# Altium integrated library Analog Devices Data Converters Analog-to-Digital Converters.IntLib: 2400 symbols (part 175 of 338)
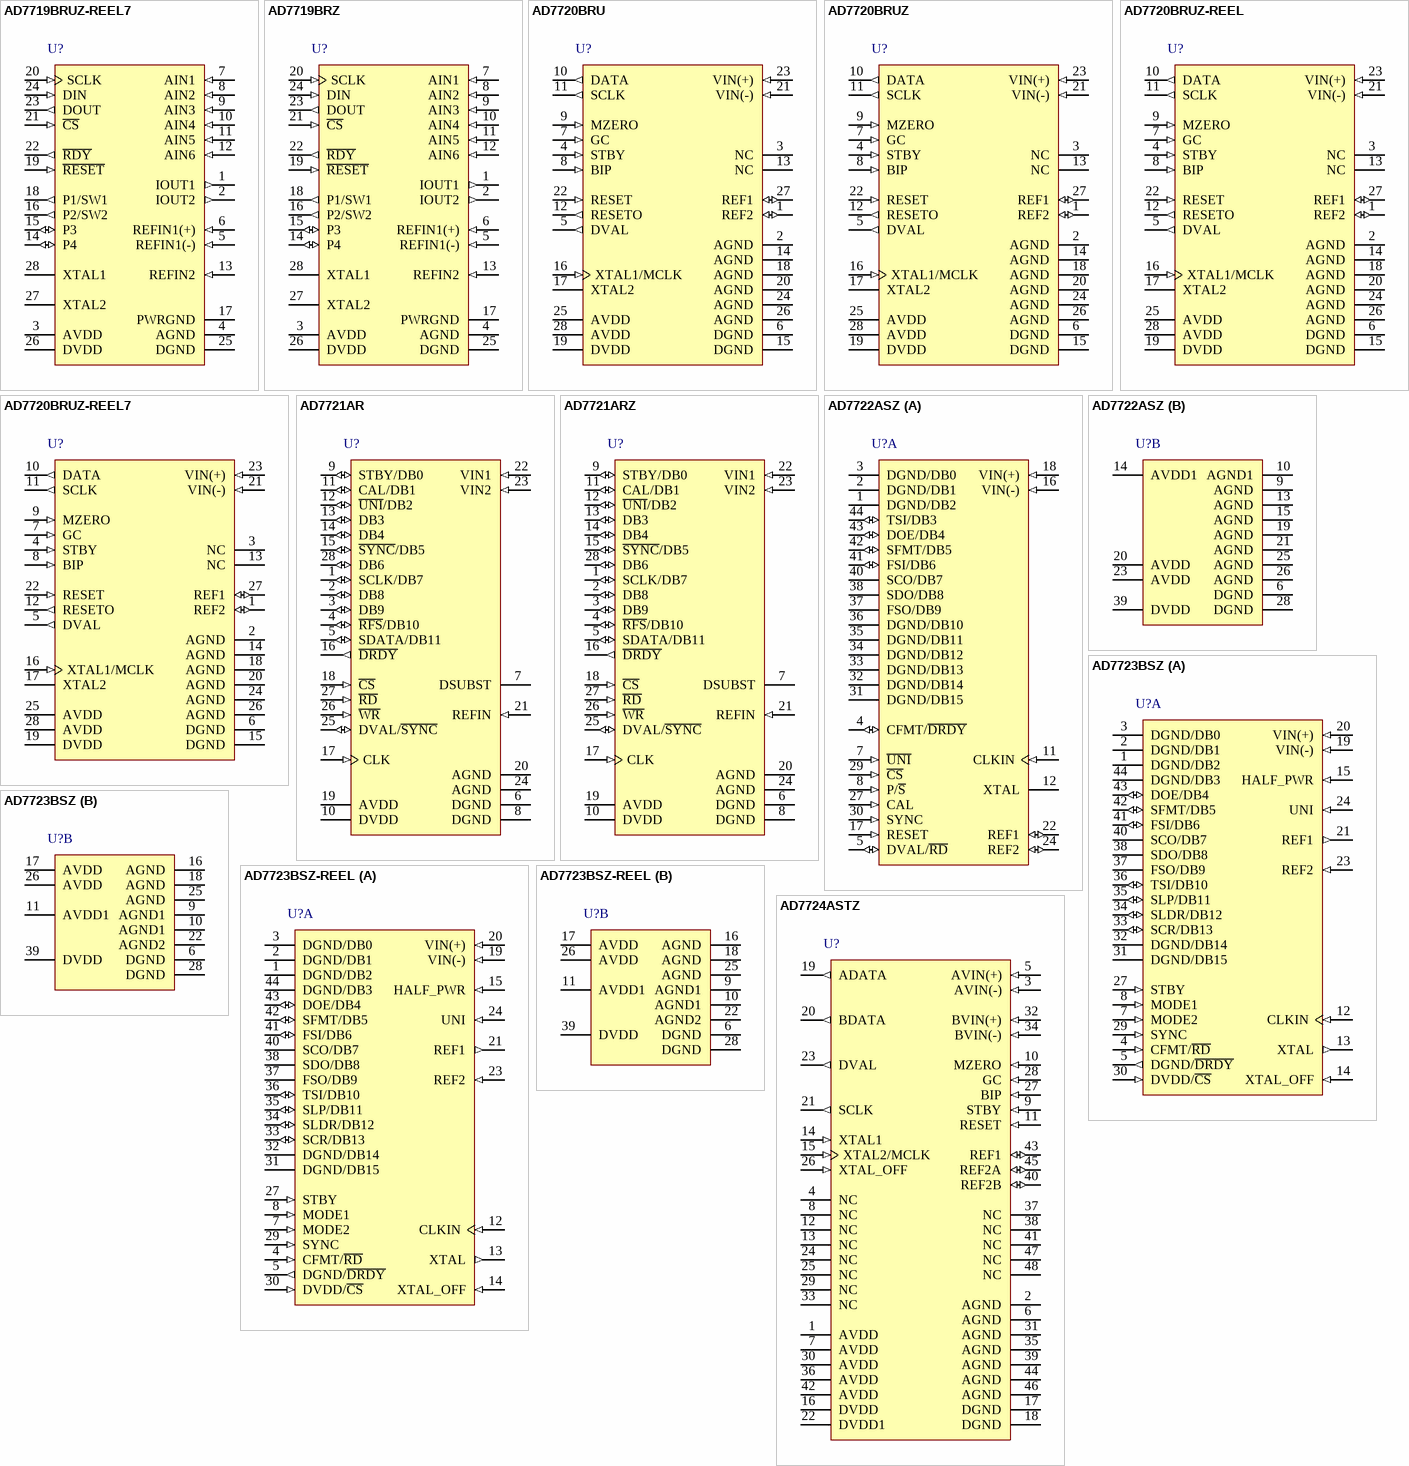
[diagram p253: symbols AD7719BRUZ-REEL7 to AD7724ASTZ]

## AD7721ARZ
designator U?
Single 16-Bit Sigma-Delta Analog-to-Digital Converter with Parallel, Serial Interface, CMOS, 468.75KSPS, -40 to +85 degC, RW-28, Pb-Free, Tube; Part Number: AD7721; Manufacturer: Analog Devices; Resolution (Bits): 16; Channels: 1; Interface: Par, Ser; DatasheetVersion: Rev.A; PackageVersion: 060706-A; PackageReference: RW-28; PackageDescription: 28-Lead Standard Small Outline Package [SOIC_W]; Throughput Rate (SPS): 468.75K; RoHS: Y; Packing: Tube; Mounting Technology: Surface Mount; Code_JEDEC: MS-013-AE; ComponentLink1Description: Manufacturer URL; ComponentLink1URL: http://www.analog.com/en/index.html; ComponentLink2Description: Datasheet; ComponentLink2URL: http://www.analog.com/static/imported-files/data_sheets/AD7721.pdf; ComponentLink3Description: Package Specification; ComponentLink3URL: http://www.analog.com/static/imported-files/packages/35833120341221RW_28.pdf; ComponentLink4Description: Product URL; ComponentLink4URL: http://www.analog.com/en/analog-to-digital-converters/ad-converters/ad7721/products/product.html
footprint RW-28_N (SOIC, 28-Leads, Body 17.9x7.5mm, Pitch 1.27mm, IPC Medium Density)
footprint RW-28_L (SOIC, 28-Leads, Body 17.9x7.5mm, Pitch 1.27mm, IPC High Density)
footprint RW-28_M (SOIC, 28-Leads, Body 17.9x7.5mm, Pitch 1.27mm, IPC Low Density)
pins: 1 SCLK/DB7 (io) "Serial Clock. Logic Output. The internal digital clock is provided as an output on this pin. Data is output from the AD7721 on the rising edge of SCLK and is valid on the falling edge of SCLK.These pins are both data outputs (See Datasheet)", 2 DB8 (io) "This is a test mode pin. This pin must be tied to DGND. This pin is both data outputs and control register inputs. Output data is placed on these pins by taking R\D\ and C\S\ low. Data on this pin is read into the control (See Datasheet)", 3 DB9 (io) "This is a test mode pin. This pin must be tied to DGND. This pin is both data output and control register input. Output data is placed on these pins by taking R\D\ and C\S\ low. Data on this pin is read into the control (See Datasheet)", 4 ~{RFS}/DB10 (io) "Receive Frame Synchronization. Active low logic input. This is a logic input with R\F\S\ provided by connecting this input to D\R\D\Y\. When RFS is high, SDATA is high impedance. This pin is both data output and control (See Datasheet)", 5 SDATA/DB11 (io) "Serial Data Output. Output serial data becomes active after R\F\S\ goes low. Sixteen bits of data are clocked out starting with the MSB. Serial data is clocked out on the rising edge of SCLK and is valid on the subsequent (See Datasheet)", 6 DGND (power) "Ground reference point for digital circuitry. DGND must be connected via its own short path to AGND (Pin 24).", 7 DSUBST (power) "This is the substrate connection for digital circuits. It must be connected via its own short path to AGND (Pin 24).", 8 DGND (power) "Ground reference point for digital circuitry. DGND must be connected via its own short path to AGND (Pin 24).", 9 STBY/DB0 (io) "Standby Mode Logic Input. A logic high on this pin selects standby mode. This pin is both data output and control register input. Output data is placed on these pins by taking R\D\ and C\S\ low. Data on this pin is read into (See Datasheet)", 10 DVDD (power) "Digital Supply Voltage, +5 V +/- 5%.", 11 CAL/DB1 (io) "Calibration Mode Logic Input. CAL must go high for at least one clock cycle to initiate a calibration cycle. This pin is both data output and control register input. Output data is placed on these pins by taking R\D\ and (See Datasheet)", 12 ~{UNI}/DB2 (io) "Analog Input Range Select, Logic Input. A logic low on this input selects unipolar mode. A logic high selects bipolar mode. This pin is both data output and control register input. Output data is placed on these pins by (See Datasheet)", 13 DB3 (io) "This is a test mode pin. This pin must be tied to DGND. This pin is both data output and control register input. Output data is placed on these pins by taking R\D\ and C\S\ low. Data on this pin is read into the control (See Datasheet)", 14 DB4 (io) "This is a test mode pin. This pin must be tied to DGND. This pin is both data output and control register input. Output data is placed on these pins by taking R\D\ and C\S\ low. Data on this pin is read into the control (See Datasheet)", 15 ~{SYNC}/DB5 (io) "Synchronization Logic Input. A rising edge on S\Y\N\C\ starts the synchronization cycle. S\Y\N\C\ must be pulsed low for at least one clock cycle to initiate a synchronization cycle.This pin is both data output and control (See Datasheet)", 16 ~{DRDY} (out) "In the serial interface mode, a rising edge on D\R\D\Y\ indicates that new data is available to be read from the interface. During a synchronization or calibration cycle, D\R\D\Y\ remains low until valid data is available.In (See Datasheet)", 17 CLK (in) "CMOS Logic Clock Input. The AD7721 operates with an external clock which is connected to the CLK pin. The modulator samples the analog input on both phases of the clock, increasing the sampling rate to 20 MHz (CLK = 10 MHz) (See Datasheet)", 18 ~{CS} (in) "To select the serial interface mode of operation, the AD7721 must be powered up with C\S\, R\D\ and W\R\ all tied to DGND. After two clock cycles, the AD7721 switches into serial mode. These pins must remain low during (See Datasheet)", 19 AVDD (power) "Analog Positive Supply Voltage, +5 V +/- 5%.", 20 AGND (power) "Ground reference point for analog circuitry.", 21 REFIN (in) "Reference Input. The AD7721 operates with an external reference, of value 2.5 V nominal. A suitable reference for operation with the AD7721 is the AD780. A 100 nF decoupling capacitor is required between REFIN and AGND.", 22 VIN1 (in) "Analog Input. In unipolar operation, the analog input range on VIN1 is VIN2 to (VIN2 + VREFIN); for bipolar operation, the analog input range on VIN1 is (VIN2 +/- VREFIN/2). The absolute analog input range must lie between 0 (See Datasheet)", 23 VIN2 (in) "Analog Input. In unipolar operation, the analog input range on VIN1 is VIN2 to (VIN2 + VREFIN); for bipolar operation, the analog input range on VIN1 is (VIN2 +/- VREFIN/2). The absolute analog input range must lie between 0 (See Datasheet)", 24 AGND (power) "Ground reference point for analog circuitry.", 25 DVAL/~{SYNC} (io) "Data Valid Digital Output. In serial mode, this pin is a dedicated data valid pin.The function of this pin is determined by the state of bit DB3 in the control register. Writing a logic zero to bit DB3 will program this pin (See Datasheet)", 26 ~{WR} (in) "To select the serial interface mode of operation, the AD7721 must be powered up with C\S\, R\D\ and W\R\ all tied to DGND. After two clock cycles, the AD7721 switches into serial mode. These pins must remain low during (See Datasheet)", 27 ~{RD} (in) "To select the serial interface mode of operation, the AD7721 must be powered up with C\S\, R\D\ and W\R\ all tied to DGND. After two clock cycles, the AD7721 switches into serial mode. These pins must remain low during (See Datasheet)", 28 DB6 (io) "This is a test mode pin. This pin must be tied to DGND. This pin is both data output and control register input. Output data is placed on these pins by taking R\D\ and C\S\ low. Data on this pin is read into the control (See Datasheet)"

## AD7722ASZ
designator U?
Single 16-Bit Sigma-Delta Analog-to-Digital Converter with Parallel, Serial Interface, CMOS, 195.3KSPS, -40 to +85 degC, S-44B, Pb-Free, Tray; Part Number: AD7722; Manufacturer: Analog Devices; Resolution (Bits): 16; Channels: 1; Throughput Rate (SPS): 195.3K; Interface: Par, Ser; DatasheetVersion: Rev.B; PackageVersion: 2003; PackageReference: S-44B; PackageDescription: 44-Lead Metric Quad Flat Package [MQFP]; RoHS: Y; Packing: Tray; Mounting Technology: Surface Mount; Code_JEDEC: MS-022-AA-1; ComponentLink1Description: Manufacturer URL; ComponentLink1URL: http://www.analog.com/en/index.html; ComponentLink2Description: Datasheet; ComponentLink2URL: http://www.analog.com/static/imported-files/data_sheets/AD7722.pdf; ComponentLink3Description: Package Specification; ComponentLink3URL: S-44B; ComponentLink4Description: Product URL; ComponentLink4URL: http://www.analog.com/en/analog-to-digital-converters/ad-converters/ad7722/products/product.html
footprint S-44B_N (QFP, 44-Leads, Body 10x10mm, Pitch 0.8mm, IPC Medium Density)
footprint S-44B_L (QFP, 44-Leads, Body 10x10mm, Pitch 0.8mm, IPC High Density)
footprint S-44B_M (QFP, 44-Leads, Body 10x10mm, Pitch 0.8mm, IPC Low Density)
part A pins: 1 DGND/DB2 (hiz) "Data Output Bit.", 2 DGND/DB1 (hiz) "Data Output Bit.", 3 DGND/DB0 (hiz) "Data Output Bit (LSB).", 4 CFMT/~{DRDY} (io) "Serial Clock Format Logic Input. The clock format pin selects whether the serial data, SDO, is valid on the rising or falling edge of the serial clock, SCO. When CFMT is logic low, SDO is valid on the falling edge of SCO if (See Datasheet)", 5 DVAL/~{RD} (io) "Data Valid Logic Output. A logic high on DVAL indicates that the conversion result in the output data register is an accurate digital representation of the analog voltage at the input to the   modulator. The DVAL pin is set (See Datasheet)", 7 ~{UNI} (in) "Analog Input Range Select Input. UNI selects the analog input range for either bipolar or unipolar operation. A logic low input selects unipolar operation. A logic high input selects bipolar operation.", 8 P/~{S} (in) "Parallel/Serial Interface Select Input. A logic high configures the output data interface for parallel mode operation. The serial mode operation is selected with the P/S\ set to a logic low.", 11 CLKIN (in) "Clock Input. Master clock signal for the device.The CLKIN pin interfaces the AD7722 internal oscillator circuit to an external crystal or an external clock. A parallel resonant, fundamental-frequency,microprocessor-grade (See Datasheet)", 12 XTAL "Oscillator Output. The XTAL pin connects the internal oscillator output to an external crystal If an external clock is used, XTAL should be left unconnected.", 16 VIN(-) (in) "Negative Terminal of the Differential Analog Input", 17 RESET (in) "Reset Logic Input", 18 VIN(+) (in) "Positive Terminal of the Differential Analog Input.", 22 REF1 (io) "Reference Input/Output. REF1 connects through 3 kO to the output of the internal 2.5 V reference and to the input of a buffer amplifier that drives the sigma-delta modulator. This pin can also be overdriven with an external (See Datasheet)", 24 REF2 (io) "Reference Input/Output. REF2 connects to the output of an internal buffer amplifier used to drive the sigma-delta modulator. When REF2 is used as an input, REF1 must be connected to AGND", 27 CAL (in) "Calibration Logic Input. A logic high input for a duration of one CLKIN cycle initiates a calibration sequence for the device gain and offset error.", 29 ~{CS} (in) "Chip select is a level sensitive logic input. C\S\ enables the output data register for parallel mode read operation. The C\S\ logic level is sensed on the rising edge of CLKIN. The output data bus is enabled when the rising (See Datasheet)", 30 SYNC (in) "Synchronization Logic Input. SYNC is an asynchronous input. When using more than one AD7722 operated from a common master clock, SYNC allows each ADC’s sigma-delta modulator to simultaneously sample its analog input and (See Datasheet)", 31 DGND/DB15 (hiz) "Data Output Bit (MSB).", 32 DGND/DB14 (hiz) "Data Output Bit.", 33 DGND/DB13 (hiz) "Data Output Bit.", 34 DGND/DB12 (hiz) "Data Output Bit.", 35 DGND/DB11 (hiz) "Data Output Bit.", 36 DGND/DB10 (hiz) "Data Output Bit.", 37 FSO/DB9 (hiz) "Data Output Bit.", 38 SDO/DB8 (hiz) "Data Output Bit.", 40 SCO/DB7 (hiz), 41 FSI/DB6 (io), 42 SFMT/DB5 (io), 43 DOE/DB4 (io), 44 TSI/DB3 (io)
part B pins: 6 DGND (power) "Ground Reference for Digital Circuitry.", 9 AGND (power) "Ground Reference for Analog Circuitry.", 10 AGND1 (power) "Clock Logic Ground Reference for the Analog Modulator.", 13 AGND (power) "Ground Reference for Analog Circuitry.", 14 AVDD1 (power) "Clock Logic Power Supply Voltage for the Analog Modulator, 5 V +/- 5%.", 15 AGND (power) "Ground Reference for Analog Circuitry.", 19 AGND (power) "Ground Reference for Analog Circuitry.", 20 AVDD (power) "Analog Power Supply Voltage, 5 V +/- 5%.", 21 AGND (power) "Ground Reference for Analog Circuitry.", 23 AVDD (power) "Analog Power Supply Voltage, 5 V +/- 5%.", 25 AGND (power) "Ground Reference for Analog Circuitry.", 26 AGND (power) "Ground Reference for Analog Circuitry.", 28 DGND (power) "Ground Reference for Digital Circuitry.", 39 DVDD (power) "Digital Power Supply Voltage, 5 V +/- 5%."

## AD7723BSZ
designator U?
Single 16-Bit Sigma-Delta Analog-to-Digital Converter with Parallel, Serial Interface, 1.2MSPS, -40 to +85 degC, S-44-2, Pb-Free, Tray; Part Number: AD7723; Manufacturer: Analog Devices; Resolution (Bits): 16; Channels: 1; Throughput Rate (SPS): 1.2M; Interface: Par, Ser; DatasheetVersion: Rev.C; PackageVersion: 041807-A; PackageReference: S-44-2; PackageDescription: 44-Lead Metric Quad Flat Package [MQFP]; RoHS: Y; Packing: Tray; Mounting Technology: Surface Mount; Code_JEDEC: MO-122-AA-1; ComponentLink1Description: Manufacturer URL; ComponentLink1URL: http://www.analog.com/en/index.html; ComponentLink2Description: Datasheet; ComponentLink2URL: http://www.analog.com/static/imported-files/data_sheets/AD7723.pdf; ComponentLink3Description: Package Specification; ComponentLink3URL: http://www.analog.com/static/imported-files/packages/209183S_44_2.pdf; ComponentLink4Description: Product URL; ComponentLink4URL: http://www.analog.com/en/analog-to-digital-converters/ad-converters/ad7723/products/product.html
footprint S-44-2_N (QFP, 44-Leads, Body 10x10mm, Pitch 0.8mm, IPC Medium Density)
footprint S-44-2_L (QFP, 44-Leads, Body 10x10mm, Pitch 0.8mm, IPC High Density)
footprint S-44-2_M (QFP, 44-Leads, Body 10x10mm, Pitch 0.8mm, IPC Low Density)
part A pins: 1 DGND/DB2 (hiz) "Data Output Bit.Tie to DGND.", 2 DGND/DB1 (hiz) "Data Output Bit.Tie to DGND.", 3 DGND/DB0 (hiz) "Data Output Bit (LSB).Tie to DGND.", 4 CFMT/~{RD} (in) "Serial Clock Format Logic Input. The clock format pin selects whether the serial data, SDO, is valid on the rising or falling edge of the serial clock, SCO. When CFMT is logic low, serial data is valid on the falling edge of (See Datasheet)", 5 DGND/~{DRDY} (out) "Data Ready Logic Output. A falling edge indicates a new output word is available to be read from the output data register. D\R\D\Y\ returns high upon completion of a read operation. If a read operation does not occur between (See Datasheet)", 7 MODE2 (in) "Mode Control Inputs. The MODE1 and MODE2 pins choose either parallel or serial data interface operation.", 8 MODE1 (in) "Mode Control Inputs. The MODE1 and MODE2 pins choose either parallel or serial data interface operation", 12 CLKIN (in) "Clock Input. An external clock source can be applied directly to this pin with XTAL_OFF tied high.  Alternatively, a parallel resonant fundamental frequency crystal, in parallel with a 1 Mohm resistor, can  be connected (See Datasheet)", 13 XTAL (out) "Input to Crystal Oscillator Amplifier. If an external clock is used, XTAL should be tied to AGND1.", 14 XTAL_OFF (in) "Oscillator Enable Input. A logic high disables the crystal oscillator amplifier to allow use of an external  clock source. Set low when using an external crystal between the CLKIN and XTAL pins.", 15 HALF_PWR (in) "When set high, the power dissipation is reduced by approximately one-half, and a maximum CLKIN  frequency of 10 MHz applies.", 19 VIN(-) (in) "Negative Terminal of the Differential Analog Input.", 20 VIN(+) (in) "Positive Terminal of the Differential Analog Input.", 21 REF1 (out) "Reference Output. REF1 connects through 3 k ohm to the output of the internal 2.5 V reference and to a buffer amplifier that drives the sigma-delta modulator.", 23 REF2 (in) "Reference Input. REF2 connects to the output of an internal buffer amplifier that drives the sigma-delta modulator.When REF2 is used as an input, REF1 must be connected to AGND to disable the internal buffer amplifier.", 24 UNI (in) "Analog Input Range Select Input. The UNI pin selects the analog input range for either bipolar or unipolar  operation. A logic high input selects unipolar operation and a logic low selects bipolar operation.", 27 STBY (in) "Standby Logic Input. A logic high sets the AD7723 into the power-down state.", 29 SYNC (in) "Synchronization Logic Input. When using more than one AD7723 operated from a common master clock,  SYNC allows each ADC to simultaneously sample its analog input and update its output register. A rising  edge resets the (See Datasheet)", 30 DVDD/~{CS} (in) "Chip Select Logic Input. Tie to DGND.", 31 DGND/DB15 (hiz) "Data Output Bit (MSB).Tie to DGND.", 32 DGND/DB14 (hiz) "Data Output Bit.Tie to DGND.", 33 SCR/DB13 (io) "Data Output Bit.Serial Clock Rate Select Input. With SCR set logic low, the serial clock output frequency, SCO, is equal to the CLKIN frequency. A logic high sets it equal to one-half the CLKIN frequency.", 34 SLDR/DB12 (io) "Data Output Bit.Serial Mode Low/High Output Data Rate Select Input. With SLDR set logic high, the low data rate is selected. A logic low selects the high data rate. The high data rate corresponds to data at the output of the (See Datasheet)", 35 SLP/DB11 (io) "Serial Mode Low-Pass/Band-Pass Filter Select Input. With SLP set logic high, the low-pass filter response is selected. A logic low selects band-pass.", 36 TSI/DB10 (io) "Time Slot Logic Input. The logic level on TSI sets the active state of the DOE pin. With TSI set logic high, DOE enables the SDO output buffer when it is a logic high and vice versa. TSI is used when two AD7723s are (See Datasheet)", 37 FSO/DB9 (hiz) "Data Output Bit. Frame Sync Output. FSO indicates the beginning of a word transmission on the SDO pin. Depending on the logic level of the SFMT pin, the FSO signal is either a positive pulse approximately one SCO period wide (See Datasheet)", 38 SDO/DB8 (hiz) "Data Output Bit. Serial Data Output. The serial data is shifted out MSB first, synchronous with the SCO. Serial Mode 1 data transmissions last 32 SCO cycles. After the LSB is output, trailing zeros are output for the (See Datasheet)", 40 SCO/DB7 (hiz) "Data Output Bit. Serial Clock Output.", 41 FSI/DB6 (io) "Data Output Bit. Frame Synchronization Logic Input. The FSI input is used to synchronize the AD7723 serial output data register to an external source and to allow more than one AD7723, operated from a common master clock, to (See Datasheet)", 42 SFMT/DB5 (io) "Serial Data Format Logic Input. The logic level on the SFMT pin selects the format of the FSO signal for Serial Mode 1. A logic low makes the FSO output a pulse one SCO cycle wide at the beginning of a serial data (See Datasheet)", 43 DOE/DB4 (io) "Data Output Bit. Data Output Enable Logic Input. The DOE pin controls the three-state output buffer of the SDO pin. The active state of DOE is determined by the logic level on the TSI pin. When the DOE logic level equals the (See Datasheet)", 44 DGND/DB3 (hiz) "Data Output Bit. Tie to DGND."
part B pins: 6 DGND (power) "Ground Reference for Digital Circuitry.", 9 AGND1 (power) "Digital Logic Power Supply Ground for the Analog Modulator.", 10 AGND1 (power) "Digital Logic Power Supply Ground for the Analog Modulator.", 11 AVDD1 (power) "Digital Logic Power Supply Voltage for the Analog Modulator.", 16 AGND (power) "Power Supply Ground for the Analog Modulator.", 17 AVDD (power) "Positive Power Supply Voltage for the Analog Modulator.", 18 AGND (power) "Power Supply Ground for the Analog Modulator.", 22 AGND2 (power) "Power Supply Ground Return to the Reference Circuitry, REF2, of the Analog Modulator.", 25 AGND (power) "Power Supply Ground for the Analog Modulator.", 26 AVDD (power) "Positive Power Supply Voltage for the Analog Modulator.", 28 DGND (power) "Ground Reference for Digital Circuitry.", 39 DVDD (power) "Digital Power Supply Voltage; 5 V +/- 5%."

## AD7723BSZ-REEL
designator U?
Single 16-Bit Sigma-Delta Analog-to-Digital Converter with Parallel, Serial Interface, 1.2MSPS, -40 to +85 degC, S-44-2, Pb-Free, Reel; Part Number: AD7723; Manufacturer: Analog Devices; Resolution (Bits): 16; Channels: 1; Throughput Rate (SPS): 1.2M; Interface: Par, Ser; DatasheetVersion: Rev.C; PackageVersion: 041807-A; PackageReference: S-44-2; PackageDescription: 44-Lead Metric Quad Flat Package [MQFP]; RoHS: Y; Packing: Reel; Mounting Technology: Surface Mount; Code_JEDEC: MO-122-AA-1; ComponentLink1Description: Manufacturer URL; ComponentLink1URL: http://www.analog.com/en/index.html; ComponentLink2Description: Datasheet; ComponentLink2URL: http://www.analog.com/static/imported-files/data_sheets/AD7723.pdf; ComponentLink3Description: Package Specification; ComponentLink3URL: http://www.analog.com/static/imported-files/packages/209183S_44_2.pdf; ComponentLink4Description: Product URL; ComponentLink4URL: http://www.analog.com/en/analog-to-digital-converters/ad-converters/ad7723/products/product.html
footprint S-44-2_N (QFP, 44-Leads, Body 10x10mm, Pitch 0.8mm, IPC Medium Density)
footprint S-44-2_L (QFP, 44-Leads, Body 10x10mm, Pitch 0.8mm, IPC High Density)
footprint S-44-2_M (QFP, 44-Leads, Body 10x10mm, Pitch 0.8mm, IPC Low Density)
part A pins: 1 DGND/DB2 (hiz) "Data Output Bit.Tie to DGND.", 2 DGND/DB1 (hiz) "Data Output Bit.Tie to DGND.", 3 DGND/DB0 (hiz) "Data Output Bit (LSB).Tie to DGND.", 4 CFMT/~{RD} (in) "Serial Clock Format Logic Input. The clock format pin selects whether the serial data, SDO, is valid on the rising or falling edge of the serial clock, SCO. When CFMT is logic low, serial data is valid on the falling edge of (See Datasheet)", 5 DGND/~{DRDY} (out) "Data Ready Logic Output. A falling edge indicates a new output word is available to be read from the output data register. D\R\D\Y\ returns high upon completion of a read operation. If a read operation does not occur between (See Datasheet)", 7 MODE2 (in) "Mode Control Inputs. The MODE1 and MODE2 pins choose either parallel or serial data interface operation.", 8 MODE1 (in) "Mode Control Inputs. The MODE1 and MODE2 pins choose either parallel or serial data interface operation", 12 CLKIN (in) "Clock Input. An external clock source can be applied directly to this pin with XTAL_OFF tied high.  Alternatively, a parallel resonant fundamental frequency crystal, in parallel with a 1 Mohm resistor, can  be connected (See Datasheet)", 13 XTAL (out) "Input to Crystal Oscillator Amplifier. If an external clock is used, XTAL should be tied to AGND1.", 14 XTAL_OFF (in) "Oscillator Enable Input. A logic high disables the crystal oscillator amplifier to allow use of an external  clock source. Set low when using an external crystal between the CLKIN and XTAL pins.", 15 HALF_PWR (in) "When set high, the power dissipation is reduced by approximately one-half, and a maximum CLKIN  frequency of 10 MHz applies.", 19 VIN(-) (in) "Negative Terminal of the Differential Analog Input.", 20 VIN(+) (in) "Positive Terminal of the Differential Analog Input.", 21 REF1 (out) "Reference Output. REF1 connects through 3 k ohm to the output of the internal 2.5 V reference and to a buffer amplifier that drives the sigma-delta modulator.", 23 REF2 (in) "Reference Input. REF2 connects to the output of an internal buffer amplifier that drives the sigma-delta modulator.When REF2 is used as an input, REF1 must be connected to AGND to disable the internal buffer amplifier.", 24 UNI (in) "Analog Input Range Select Input. The UNI pin selects the analog input range for either bipolar or unipolar  operation. A logic high input selects unipolar operation and a logic low selects bipolar operation.", 27 STBY (in) "Standby Logic Input. A logic high sets the AD7723 into the power-down state.", 29 SYNC (in) "Synchronization Logic Input. When using more than one AD7723 operated from a common master clock,  SYNC allows each ADC to simultaneously sample its analog input and update its output register. A rising  edge resets the (See Datasheet)", 30 DVDD/~{CS} (in) "Chip Select Logic Input. Tie to DGND.", 31 DGND/DB15 (hiz) "Data Output Bit (MSB).Tie to DGND.", 32 DGND/DB14 (hiz) "Data Output Bit.Tie to DGND.", 33 SCR/DB13 (io) "Data Output Bit.Serial Clock Rate Select Input. With SCR set logic low, the serial clock output frequency, SCO, is equal to the CLKIN frequency. A logic high sets it equal to one-half the CLKIN frequency.", 34 SLDR/DB12 (io) "Data Output Bit.Serial Mode Low/High Output Data Rate Select Input. With SLDR set logic high, the low data rate is selected. A logic low selects the high data rate. The high data rate corresponds to data at the output of the (See Datasheet)", 35 SLP/DB11 (io) "Serial Mode Low-Pass/Band-Pass Filter Select Input. With SLP set logic high, the low-pass filter response is selected. A logic low selects band-pass.", 36 TSI/DB10 (io) "Time Slot Logic Input. The logic level on TSI sets the active state of the DOE pin. With TSI set logic high, DOE enables the SDO output buffer when it is a logic high and vice versa. TSI is used when two AD7723s are (See Datasheet)", 37 FSO/DB9 (hiz) "Data Output Bit. Frame Sync Output. FSO indicates the beginning of a word transmission on the SDO pin. Depending on the logic level of the SFMT pin, the FSO signal is either a positive pulse approximately one SCO period wide (See Datasheet)", 38 SDO/DB8 (hiz) "Data Output Bit. Serial Data Output. The serial data is shifted out MSB first, synchronous with the SCO. Serial Mode 1 data transmissions last 32 SCO cycles. After the LSB is output, trailing zeros are output for the (See Datasheet)", 40 SCO/DB7 (hiz) "Data Output Bit. Serial Clock Output.", 41 FSI/DB6 (io) "Data Output Bit. Frame Synchronization Logic Input. The FSI input is used to synchronize the AD7723 serial output data register to an external source and to allow more than one AD7723, operated from a common master clock, to (See Datasheet)", 42 SFMT/DB5 (io) "Serial Data Format Logic Input. The logic level on the SFMT pin selects the format of the FSO signal for Serial Mode 1. A logic low makes the FSO output a pulse one SCO cycle wide at the beginning of a serial data (See Datasheet)", 43 DOE/DB4 (io) "Data Output Bit. Data Output Enable Logic Input. The DOE pin controls the three-state output buffer of the SDO pin. The active state of DOE is determined by the logic level on the TSI pin. When the DOE logic level equals the (See Datasheet)", 44 DGND/DB3 (hiz) "Data Output Bit. Tie to DGND."
part B pins: 6 DGND (power) "Ground Reference for Digital Circuitry.", 9 AGND1 (power) "Digital Logic Power Supply Ground for the Analog Modulator.", 10 AGND1 (power) "Digital Logic Power Supply Ground for the Analog Modulator.", 11 AVDD1 (power) "Digital Logic Power Supply Voltage for the Analog Modulator.", 16 AGND (power) "Power Supply Ground for the Analog Modulator.", 17 AVDD (power) "Positive Power Supply Voltage for the Analog Modulator.", 18 AGND (power) "Power Supply Ground for the Analog Modulator.", 22 AGND2 (power) "Power Supply Ground Return to the Reference Circuitry, REF2, of the Analog Modulator.", 25 AGND (power) "Power Supply Ground for the Analog Modulator.", 26 AVDD (power) "Positive Power Supply Voltage for the Analog Modulator.", 28 DGND (power) "Ground Reference for Digital Circuitry.", 39 DVDD (power) "Digital Power Supply Voltage; 5 V +/- 5%."

## AD7724ASTZ
designator U?
Dual 15-Bit Sigma-Delta Analog-to-Digital Converter with Serial Interface, CMOS, 250KSPS, -40 to +85 degC, ST-48, Pb-Free, Tray; Part Number: AD7724; Manufacturer: Analog Devices; Resolution (Bits): 15; Channels: 2; Throughput Rate (SPS): 250K; Interface: Ser; DatasheetVersion: Rev.B; PackageVersion: revA; PackageReference: ST-48; PackageDescription: 48-Pin Thin Quad Flat Pack 0.5 mm Pitch; RoHS: Y; Packing: Tray; Mounting Technology: Surface Mount; ComponentLink1Description: Manufacturer URL; ComponentLink1URL: http://www.analog.com/en/index.html; ComponentLink2Description: Datasheet; ComponentLink2URL: http://www.analog.com/static/imported-files/data_sheets/AD7724.pdf; ComponentLink3Description: Package Specification; ComponentLink3URL: http://www.analog.com/static/imported-files/packages/PKG_PDF/LQFP%28ST%29/ST_48.pdf; ComponentLink4Description: Product URL; ComponentLink4URL: http://www.analog.com/en/analog-to-digital-converters/ad-converters/ad7724/products/product.html
footprint ST-48_N (Thin QFP, 48-Leads, Body 7x7mm, Pitch 0.5mm, IPC Medium Density)
footprint ST-48_L (Thin QFP, 48-Leads, Body 7x7mm, Pitch 0.5mm, IPC High Density)
footprint ST-48_M (Thin QFP, 48-Leads, Body 7x7mm, Pitch 0.5mm, IPC Low Density)
pins: 1 AVDD (power) "Analog Positive Supply Voltage, 5 V +/- 5%.", 2 AGND (power) "Ground reference point for analog circuitry", 3 AVIN(-) (in) "Analog Input to Modulator A. In unipolar operation, the analog input range on AVIN(+) is AVIN(-) to (AVIN(-) + VREF); for bipolar operation, the analog input range on AVIN(+) is (AVIN(-) +/- VREF/2). The absolute analog (See Datasheet)", 4 NC "no connected", 5 AVIN(+) (in) "Analog Input to Modulator A. In unipolar operation, the analog input range on AVIN(+) is AVIN(-) to (AVIN(-) + VREF); for bipolar operation, the analog input range on AVIN(+) is (AVIN(-) +/- VREF/2). The absolute analog (See Datasheet)", 6 AGND (power) "Ground reference point for analog circuitry.", 7 AVDD (power) "Analog Positive Supply Voltage, 5 V +/- 5%", 8 NC "no connected", 9 STBY (in) "Standby, Logic Input. When STBY is high, the device is placed in a low power mode. When STBY is low, the device is powered up.", 10 MZERO (in) "Digital Control Input. When MZERO is high, the modulator inputs are internally grounded i.e. tied to AGND in unipolar mode and REF2 in bipolar mode. MZERO allows on-chip offsets to be calibrated out. MZERO is low for normal (See Datasheet)", 11 RESET (in) "Reset Logic Input. RESET is an asynchronous input. When RESET is taken high, the sigma-delta modulator is  reset by shorting the integrator capacitors in the modulator. DVAL goes low for 20 MCLK cycles while the modulator is (See Datasheet)", 12 NC "no connected", 13 NC "no connected", 14 XTAL1 (in) "Input to Crystal Oscillator Amplifier. This pin can also be used to gain up a small input square or sine wave with XTAL_OFF tied low (see Figure 32 on page 12). When a clock source is applied to XTAL1, SCLK will be inverted (See Datasheet)", 15 XTAL2/MCLK (in) "Clock Input. An external clock source can be applied directly to this pin with XTAL_OFF tied high. In this case, XTAL1 should be tied to AGND. Alternatively, a parallel resonant fundamental frequency crystal, in parallel (See Datasheet)", 16 DVDD (power) "Digital Supply Voltage, 5 V +/- 5%", 17 DGND (power) "Ground reference for the digital circuitry", 18 DGND (power) "Ground reference for the digital circuitry", 19 ADATA (out) "Modulator A Bit Stream. The digital bit stream from the sigma-delta modulator is output at ADATA.", 20 BDATA (out) "Modulator B Bit Stream. The digital bit stream from the sigma-delta modulator is output at BDATA.", 21 SCLK (out) "Serial Clock, Logic Output. The bit stream from modulator A and modulator B is valid on the rising edge of ASCLK", 22 DVDD1 (power) "Digital Supply Voltage for the digital outputs. DVDD1 can have a value of 5 V +/- 5% or 3 V +/- 5% so that the logic outputs can be 3 V or 5 V compatible.", 23 DVAL (out) "Data Valid Logic Output. A logic high on DVAL indicates that the data bit stream from the AD7724 is an accurate digital representation of the analog voltage at the input to the sigma-delta modulator. The DVAL pin is set low (See Datasheet)", 24 NC "no connected", 25 NC "no connected", 26 XTAL_OFF (in) "Oscillator Enable Input. A logic high disables the crystal oscillator amplifier to allow use of an external clock source. XTAL_OFF is set to a logic low when an external crystal is used between XTAL1 and XTAL2.", 27 BIP (in) "Analog Input Range Select, Logic Input. A logic low on this input selects unipolar mode. A logic high selects bipolar mode.", 28 GC (in) "Digital Control Input. When GC is high, the gain error of the modulator can be calibrated.", 29 NC "no connected", 30 AVDD (power) "Analog Positive Supply Voltage, 5 V +/- 5%", 31 AGND (power) "Ground reference point for analog circuitry.", 32 BVIN(+) (in) "Analog Input to Modulator B. In unipolar operation, the analog input range on BVIN(+) is BVIN(-) to (BVIN(-) + VREF); for bipolar operation, the analog input range on BVIN(+) is (BVIN(-) +/- VREF/2). The absolute analog (See Datasheet)", 33 NC "no connected", 34 BVIN(-) (in) "Analog Input to Modulator B. In unipolar operation, the analog input range on BVIN(+) is BVIN(-) to (BVIN(-) + VREF); for bipolar operation, the analog input range on BVIN(+) is (BVIN(-) +/- VREF/2). The absolute analog (See Datasheet)", 35 AGND (power) "Ground reference point for analog circuitry.", 36 AVDD (power) "Analog Positive Supply Voltage, 5 V +/- 5%", 37 NC "no connected", 38 NC "no connected", 39 AGND (power) "Ground reference point for analog circuitry.", 40 REF2B (io) "Reference Input/Output to Sigma-Delta Modulator B. REF2B connects to the output of an external buffer amplifier used to drive sigma-delta modulator B. When REF2B is used as an input, REF1 must be connected to AGND.", 41 NC "no connected", 42 AVDD (power) "Analog Positive Supply Voltage, 5 V +/- 5%", 43 REF1 (io) "Reference Input/Output. REF1 connects through 3 k ohm to the output of the internal 2.5 V reference and to the input of two buffer amplifiers that drive sigma-? modulator A and sigma-? modulator B. The pin can be overdriven (See Datasheet)", 44 AGND (power) "Ground reference point for analog circuitry.", 45 REF2A (io) "Reference Input/Output to Sigma-Delta Modulator A. REF2A connects to the output of an external buffer amplifier used to drive sigma-delta modulator A. When REF2A is used as an input, REF1 must be connected to AGND.", 46 AGND (power) "Ground reference point for analog circuitry.", 47 NC "no connected", 48 NC "no connected"

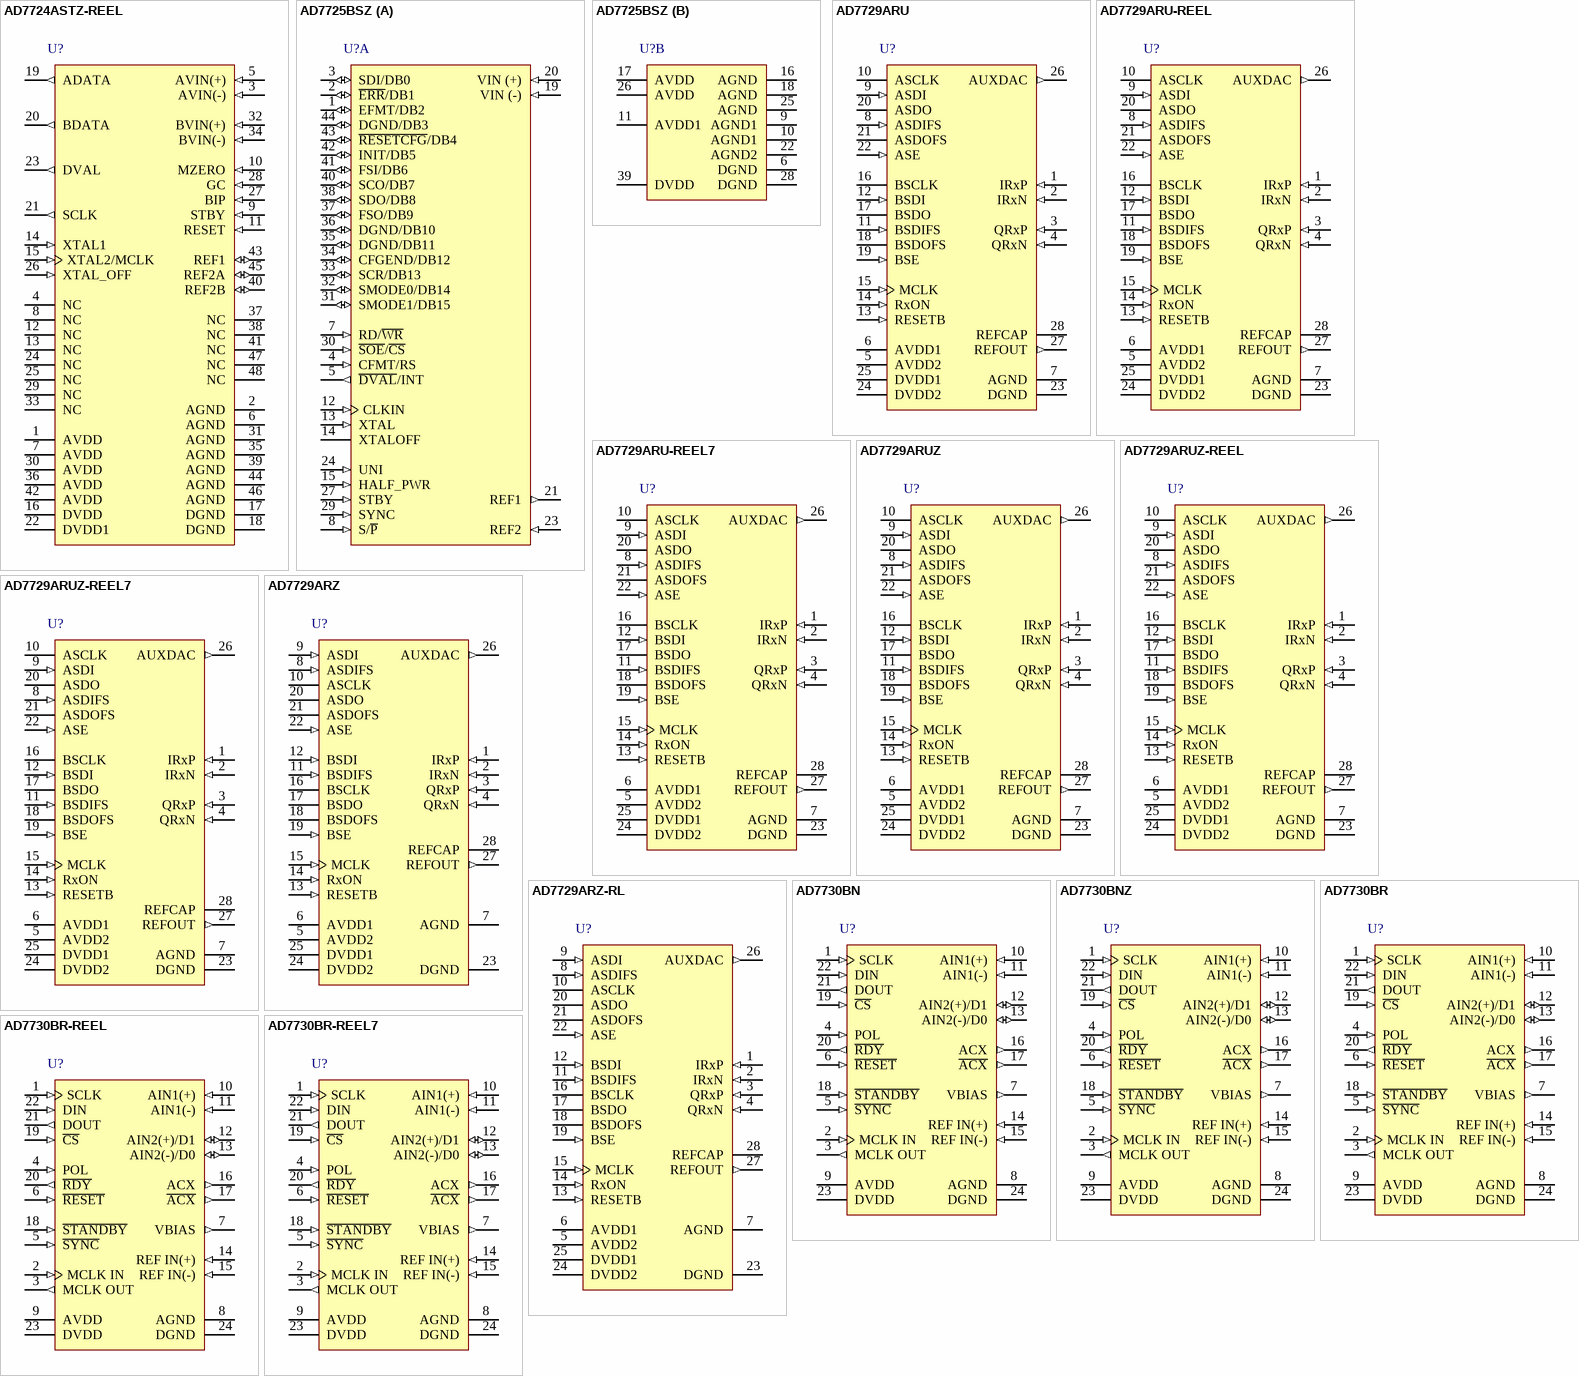
[diagram p56: symbols AD7724ASTZ-REEL to AD7730BR-REEL7]

## AD7724ASTZ-REEL
designator U?
Dual 15-Bit Sigma-Delta Analog-to-Digital Converter with Serial Interface, CMOS, 250KSPS, -40 to +85 degC, ST-48, Pb-Free, Reel; Part Number: AD7724; Manufacturer: Analog Devices; Resolution (Bits): 15; Channels: 2; Throughput Rate (SPS): 250K; Interface: Ser; DatasheetVersion: Rev.B; PackageVersion: revA; PackageReference: ST-48; PackageDescription: 48-Pin Thin Quad Flat Pack 0.5 mm Pitch; RoHS: Y; Packing: Reel; Mounting Technology: Surface Mount; ComponentLink1Description: Manufacturer URL; ComponentLink1URL: http://www.analog.com/en/index.html; ComponentLink2Description: Datasheet; ComponentLink2URL: http://www.analog.com/static/imported-files/data_sheets/AD7724.pdf; ComponentLink3Description: Package Specification; ComponentLink3URL: http://www.analog.com/static/imported-files/packages/PKG_PDF/LQFP%28ST%29/ST_48.pdf; ComponentLink4Description: Product URL; ComponentLink4URL: http://www.analog.com/en/analog-to-digital-converters/ad-converters/ad7724/products/product.html
footprint ST-48_N (Thin QFP, 48-Leads, Body 7x7mm, Pitch 0.5mm, IPC Medium Density)
footprint ST-48_L (Thin QFP, 48-Leads, Body 7x7mm, Pitch 0.5mm, IPC High Density)
footprint ST-48_M (Thin QFP, 48-Leads, Body 7x7mm, Pitch 0.5mm, IPC Low Density)
pins: 1 AVDD (power) "Analog Positive Supply Voltage, 5 V +/- 5%.", 2 AGND (power) "Ground reference point for analog circuitry", 3 AVIN(-) (in) "Analog Input to Modulator A. In unipolar operation, the analog input range on AVIN(+) is AVIN(-) to (AVIN(-) + VREF); for bipolar operation, the analog input range on AVIN(+) is (AVIN(-) +/- VREF/2). The absolute analog (See Datasheet)", 4 NC "no connected", 5 AVIN(+) (in) "Analog Input to Modulator A. In unipolar operation, the analog input range on AVIN(+) is AVIN(-) to (AVIN(-) + VREF); for bipolar operation, the analog input range on AVIN(+) is (AVIN(-) +/- VREF/2). The absolute analog (See Datasheet)", 6 AGND (power) "Ground reference point for analog circuitry.", 7 AVDD (power) "Analog Positive Supply Voltage, 5 V +/- 5%", 8 NC "no connected", 9 STBY (in) "Standby, Logic Input. When STBY is high, the device is placed in a low power mode. When STBY is low, the device is powered up.", 10 MZERO (in) "Digital Control Input. When MZERO is high, the modulator inputs are internally grounded i.e. tied to AGND in unipolar mode and REF2 in bipolar mode. MZERO allows on-chip offsets to be calibrated out. MZERO is low for normal (See Datasheet)", 11 RESET (in) "Reset Logic Input. RESET is an asynchronous input. When RESET is taken high, the sigma-delta modulator is  reset by shorting the integrator capacitors in the modulator. DVAL goes low for 20 MCLK cycles while the modulator is (See Datasheet)", 12 NC "no connected", 13 NC "no connected", 14 XTAL1 (in) "Input to Crystal Oscillator Amplifier. This pin can also be used to gain up a small input square or sine wave with XTAL_OFF tied low (see Figure 32 on page 12). When a clock source is applied to XTAL1, SCLK will be inverted (See Datasheet)", 15 XTAL2/MCLK (in) "Clock Input. An external clock source can be applied directly to this pin with XTAL_OFF tied high. In this case, XTAL1 should be tied to AGND. Alternatively, a parallel resonant fundamental frequency crystal, in parallel (See Datasheet)", 16 DVDD (power) "Digital Supply Voltage, 5 V +/- 5%", 17 DGND (power) "Ground reference for the digital circuitry", 18 DGND (power) "Ground reference for the digital circuitry", 19 ADATA (out) "Modulator A Bit Stream. The digital bit stream from the sigma-delta modulator is output at ADATA.", 20 BDATA (out) "Modulator B Bit Stream. The digital bit stream from the sigma-delta modulator is output at BDATA.", 21 SCLK (out) "Serial Clock, Logic Output. The bit stream from modulator A and modulator B is valid on the rising edge of ASCLK", 22 DVDD1 (power) "Digital Supply Voltage for the digital outputs. DVDD1 can have a value of 5 V +/- 5% or 3 V +/- 5% so that the logic outputs can be 3 V or 5 V compatible.", 23 DVAL (out) "Data Valid Logic Output. A logic high on DVAL indicates that the data bit stream from the AD7724 is an accurate digital representation of the analog voltage at the input to the sigma-delta modulator. The DVAL pin is set low (See Datasheet)", 24 NC "no connected", 25 NC "no connected", 26 XTAL_OFF (in) "Oscillator Enable Input. A logic high disables the crystal oscillator amplifier to allow use of an external clock source. XTAL_OFF is set to a logic low when an external crystal is used between XTAL1 and XTAL2.", 27 BIP (in) "Analog Input Range Select, Logic Input. A logic low on this input selects unipolar mode. A logic high selects bipolar mode.", 28 GC (in) "Digital Control Input. When GC is high, the gain error of the modulator can be calibrated.", 29 NC "no connected", 30 AVDD (power) "Analog Positive Supply Voltage, 5 V +/- 5%", 31 AGND (power) "Ground reference point for analog circuitry.", 32 BVIN(+) (in) "Analog Input to Modulator B. In unipolar operation, the analog input range on BVIN(+) is BVIN(-) to (BVIN(-) + VREF); for bipolar operation, the analog input range on BVIN(+) is (BVIN(-) +/- VREF/2). The absolute analog (See Datasheet)", 33 NC "no connected", 34 BVIN(-) (in) "Analog Input to Modulator B. In unipolar operation, the analog input range on BVIN(+) is BVIN(-) to (BVIN(-) + VREF); for bipolar operation, the analog input range on BVIN(+) is (BVIN(-) +/- VREF/2). The absolute analog (See Datasheet)", 35 AGND (power) "Ground reference point for analog circuitry.", 36 AVDD (power) "Analog Positive Supply Voltage, 5 V +/- 5%", 37 NC "no connected", 38 NC "no connected", 39 AGND (power) "Ground reference point for analog circuitry.", 40 REF2B (io) "Reference Input/Output to Sigma-Delta Modulator B. REF2B connects to the output of an external buffer amplifier used to drive sigma-delta modulator B. When REF2B is used as an input, REF1 must be connected to AGND.", 41 NC "no connected", 42 AVDD (power) "Analog Positive Supply Voltage, 5 V +/- 5%", 43 REF1 (io) "Reference Input/Output. REF1 connects through 3 k ohm to the output of the internal 2.5 V reference and to the input of two buffer amplifiers that drive sigma-? modulator A and sigma-? modulator B. The pin can be overdriven (See Datasheet)", 44 AGND (power) "Ground reference point for analog circuitry.", 45 REF2A (io) "Reference Input/Output to Sigma-Delta Modulator A. REF2A connects to the output of an external buffer amplifier used to drive sigma-delta modulator A. When REF2A is used as an input, REF1 must be connected to AGND.", 46 AGND (power) "Ground reference point for analog circuitry.", 47 NC "no connected", 48 NC "no connected"